# EAGLE library part REG710 (library PARTS 2)
DC-DC Voltage regulator
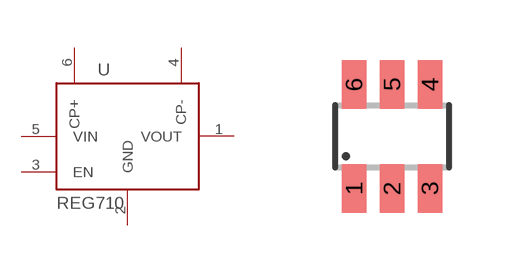
[diagram p2: symbol with the pads of TSOT23-6; footprint TSOT23-6]

Designator prefix U

## REG710  [TSOT23-6]
1  VOUT
2  GND
3  EN
4  CP-
5  VIN
6  CP+

## Footprint TSOT23-6 (pad centres in mm)
S6 Package 6-Lead Plastic TSOT-23 Source: http://cds.linear.com/docs/Datasheet/623012fb.pdf
smd 0.62 x 1.22: 1 -0.95,-1.3; 2 0,-1.3; 3 0.95,-1.3; 4 0.95,1.3; 5 0,1.3; 6 -0.95,1.3